# EAGLE library part ADS1248IPWR (library ADS1248IPWR)
24-Bit, 2kSPS, 8-Ch Delta-Sigma ADC for Precision Sensor Measurement Source: Datasheet <http://www.ti.com/lit/gpn/ADS1248>
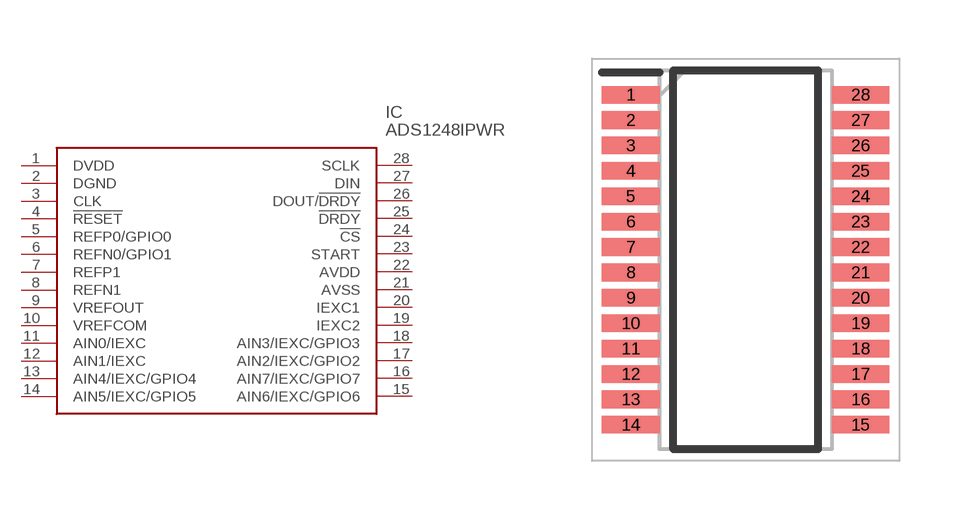
[diagram p0: symbol with the pads of SOP65P640X120-28N; footprint SOP65P640X120-28N]

Designator prefix IC

## ADS1248IPWR (Arrow_Part_Number: ADS1248IPWR; Arrow_Price-Stock: https://www.arrow.com/en/products/ads1248ipwr/texas-instruments?region=nac; Description: 24-Bit, 2kSPS, 8-Ch Delta-Sigma ADC for Precision Sensor Measurement; Height: 1.2mm; Manufacturer_Name: Texas Instruments; Manufacturer_Part_Number: ADS1248IPWR; Mouser_Part_Number: 595-ADS1248IPWR; Mouser_Price-Stock: https://www.mouser.co.uk/ProductDetail/Texas-Instruments/ADS1248IPWR?qs=J7dbQ%252BTwiyv7%2FPk4aINAHQ%3D%3D)  [SOP65P640X120-28N]
1  DVDD
2  DGND
3  CLK
4  !RESET
5  REFP0/GPIO0
6  REFN0/GPIO1
7  REFP1
8  REFN1
9  VREFOUT
10  VREFCOM
11  AIN0/IEXC
12  AIN1/IEXC
13  AIN4/IEXC/GPIO4
14  AIN5/IEXC/GPIO5
15  AIN6/IEXC/GPIO6
16  AIN7/IEXC/GPIO7
17  AIN2/IEXC/GPIO2
18  AIN3/IEXC/GPIO3
19  IEXC2
20  IEXC1
21  AVSS
22  AVDD
23  START
24  !CS
25  !DRDY
26  DOUT/!DRDY
27  DIN
28  SCLK

## Footprint SOP65P640X120-28N (pad centres in mm)
TSSOP28
smd 1.475 x 0.45: 1 -2.938,4.225; 2 -2.938,3.575; 3 -2.938,2.925; 4 -2.938,2.275; 5 -2.938,1.625; 6 -2.938,0.975; 7 -2.938,0.325; 8 -2.938,-0.325; 9 -2.938,-0.975; 10 -2.938,-1.625; 11 -2.938,-2.275; 12 -2.938,-2.925; 13 -2.938,-3.575; 14 -2.938,-4.225; 15 2.938,-4.225; 16 2.938,-3.575; 17 2.938,-2.925; 18 2.938,-2.275; 19 2.938,-1.625; 20 2.938,-0.975; 21 2.938,-0.325; 22 2.938,0.325; 23 2.938,0.975; 24 2.938,1.625; 25 2.938,2.275; 26 2.938,2.925; 27 2.938,3.575; 28 2.938,4.225